# Altium footprint library RFM95W_PcbLib.PcbLib: 3 footprints
Each footprint in its own frame and in the unit in brackets; x right, y up, seen from the top. Pads: shape width x height; smd on the part's side, far side on the other; paste and mask are expansions set on the pad; w line width, h text height; cw(c..) or ccw(c..) is an arc to the next point about the centre after c.
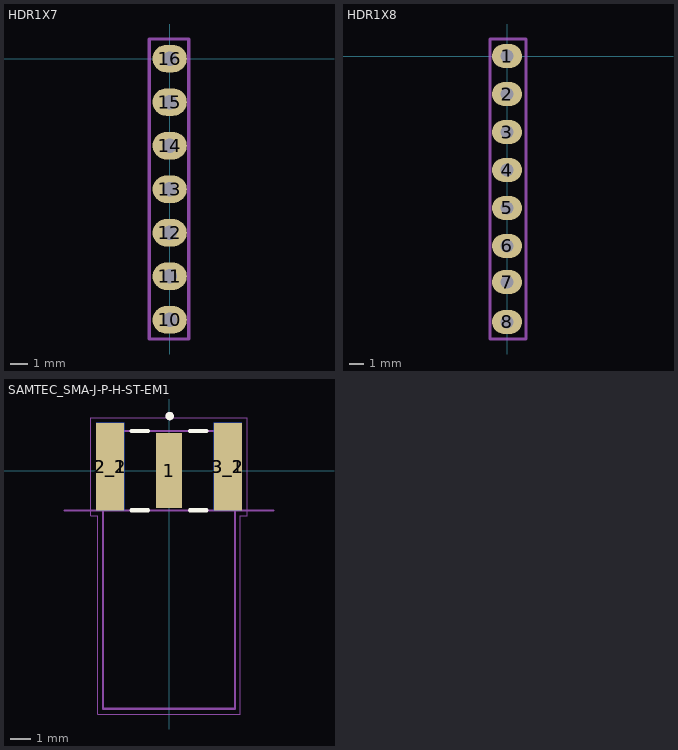
[diagram p0: the footprints below, top view; thin cyan lines are the x and y axes]

## HDR1X7 [mm]
pads (7):
  oval 2x1.6 hole 0.85 unplated: 10(0,-15.24) 11(0,-12.7) 12(0,-10.16) 13(0,-7.62) 14(0,-5.08) 15(0,-2.54) 16(0,0)
Top Layer:
  text "16" at 1.778,-0.762 h1.52
  text "15" at 1.778,-3.302 h1.52
  text "14" at 1.778,-5.842 h1.52
  text "13" at 1.778,-8.382 h1.52
  text "12" at 1.778,-10.922 h1.52
  text "11" at 1.778,-13.462 h1.52
  text "10" at 1.778,-16.002 h1.52
Mechanical 29:
  lines w0.2: -1.194,-16.358 -1.194,1.143 1.118,1.143 1.118,-16.358 -1.194,-16.358
3D body "022102071.stp": height 10.92, standoff -3.3, extent -1.181,-16.383 1.181,1.143

## HDR1X8 [mm]
pads (8):
  oval 2x1.6 hole 0.85 unplated: 1(0,0) 2(0,-2.54) 3(0,-5.08) 4(0,-7.62) 5(0,-10.16) 6(0,-12.7) 7(0,-15.113) 8(0,-17.78)
Top Layer:
  text "8" at -2.794,-18.542 h1.52
  text "7" at -2.794,-15.875 h1.52
  text "6" at -2.794,-13.462 h1.52
  text "5" at -2.794,-10.922 h1.52
  text "4" at -2.794,-8.382 h1.52
  text "3" at -2.794,-5.842 h1.52
  text "2" at -2.794,-3.302 h1.52
  text "1" at -2.286,-0.762 h1.52
Mechanical 29:
  lines w0.2: -1.143,-18.923 1.27,-18.923 1.27,1.143 -1.143,1.143 -1.143,-18.923
3D body "022102081.stp": height 1.52, standoff -12.7, extent -1.181,-18.923 1.181,1.143

## SAMTEC_SMA-J-P-H-ST-EM1 [mm]
pads (5):
  rect 1.27x3.6 smd: 1(0,0)
  rect 1.35x4.2 smd: 2_1(-2.825,0.2) 3_1(2.825,0.2)
  rect 1.35x4.2 smd far side: 2_2(-2.825,0.2) 3_2(2.825,0.2)
Top Overlay:
  circle w0.2: c0.03,2.62 r0.1
  lines w0.2: -1.8,-1.9 -1,-1.9 ; -1.8,1.91 -1,1.91 ; 1,-1.9 1.8,-1.9 ; 1,1.91 1.8,1.91
Mechanical 13:
  circle w0.2: c0.03,2.62 r0.1
  lines w0.1: -5,-1.9 -3.165,-1.9 ; 5,-1.9 3.165,-1.9 ; -3.165,-1.9 -3.165,-11.42 3.165,-11.42 3.165,-1.9 ; -3.165,-1.9 3.165,-1.9 ; -3.165,-1.9 -3.175,1.91 3.175,1.91 3.165,-1.9
  text "PCB EDGE" at 4.304,-1.702 h0.61
Mechanical 15:
  lines w0.05: -3.75,-2.15 -3.415,-2.15 -3.415,-11.67 3.415,-11.67 3.415,-2.15 3.75,-2.15 3.75,2.55 -3.75,2.55 -3.75,-2.15
3D body "SMA-J-P-H-ST-EM1.stp": height 3.17, standoff -3.17, extent -3.175,0.994 3.175,14.324